# Altium schematic symbol library SG_SCH_Analog.SchLib: 13 symbols
Pins are listed as number, name and electrical type; pins without a type are passive.

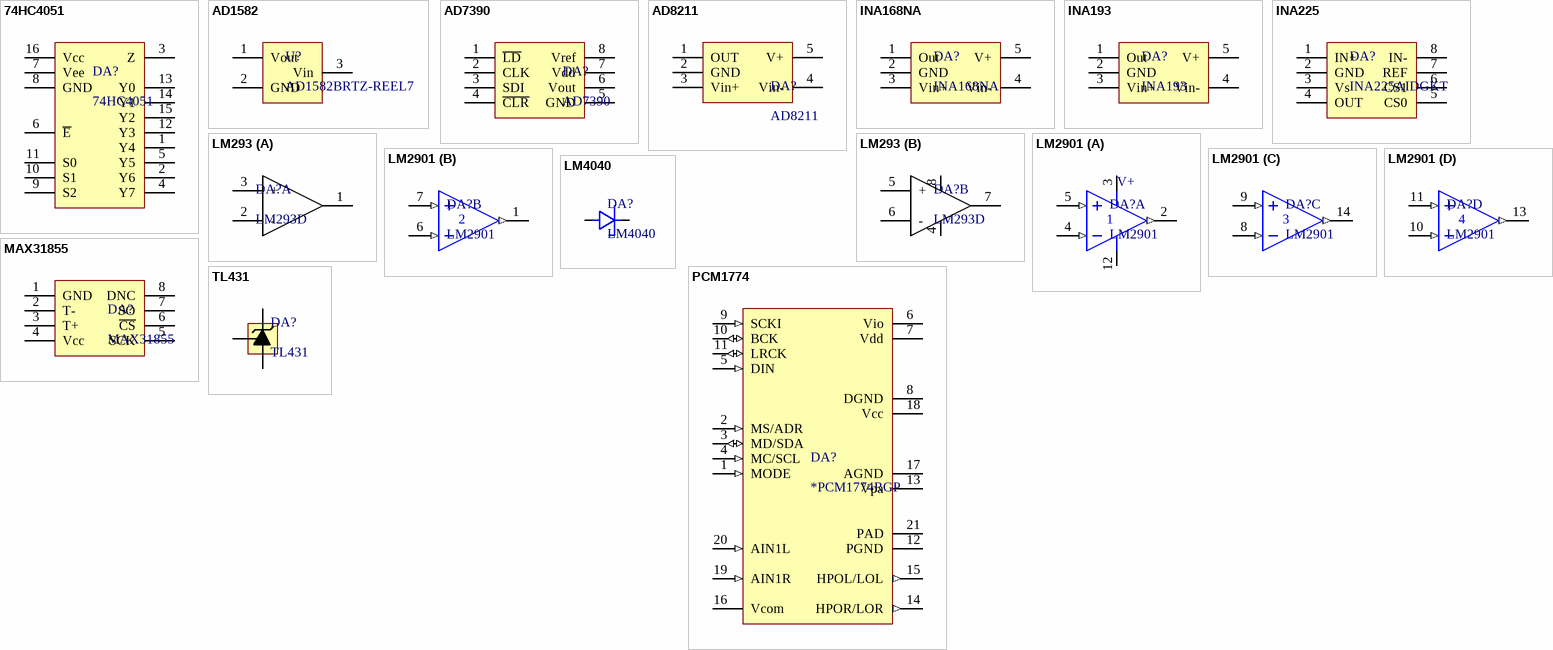
[diagram p0: symbols 74HC4051 to TL431]

## 74HC4051
designator DA?
Analog multiplexer/demultiplexer; Order: *74HC4051PW.118
footprint TSSOP-16
pins: 1 Y4, 2 Y6, 3 Z, 4 Y7, 5 Y5, 6 ~{E}, 7 Vee, 8 GND, 9 S2, 10 S1, 11 S0, 12 Y3, 13 Y0, 14 Y1, 15 Y2, 16 Vcc

## AD1582
designator U?, comment AD1582BRTZ-REEL7
Voltage reference; Order: *AD1582BRTZ-REEL7
footprint SOT23-3
pins: 1 Vout, 2 GND, 3 Vin

## AD7390
designator DA?
12-bit DAC; Order: *
footprint SO-8 (Small Outline; 8 Leads; Body Width 3.9 mm; Pitch 1.27 mm)
pins: 1 ~{LD}, 2 CLK, 3 SDI, 4 ~{CL}~{R}, 5 GND, 6 Vout, 7 Vdd, 8 Vref

## AD8211
designator DA?
Current monitor 20V/V, 500kHz, 5Vss; Order: *
footprint SOT23-5
pins: 1 OUT, 2 GND, 3 Vin+, 4 Vin-, 5 V+

## INA168NA
designator DA?
I2U converter; Order: *
pins: 1 Out, 2 GND, 3 Vin+, 4 Vin-, 5 V+

## INA193
designator DA?
I2U converter; Order: *
footprint SOT23-5
footprint SOT23-5N (SOT23, 5-Leads, Body 2,90x2,80mm, Pitch 0,95mm, IPC Medium Density)
footprint SOT23-5L (SOT23, 5-Leads, Body 2,90x2,80mm, Pitch 0,95mm, IPC High Density)
footprint SOT23-5M (SOT23, 5-Leads, Body 2,90x2,80mm, Pitch 0,95mm, IPC Low Density)
pins: 1 Out, 2 GND, 3 Vin+, 4 Vin-, 5 V+

## INA225
designator DA?, comment INA225AIDGKT
I2U converter; Order: *INA225AIDGKT
footprint MSOP-8 (TSOP, 8-Leads, Body 3,00x3,00mm, Pitch 0,65mm, IPC Medium Density)
pins: 1 IN+, 2 GND, 3 Vs, 4 OUT, 5 CS0, 6 CS1, 7 REF, 8 IN-

## LM293
designator DA?, comment LM293D
Low Power Low Offset Voltage Dual Comparators; Order: *LM293D
footprint SO-8 (Small Outline; 8 Leads; Body Width 3.9 mm; Pitch 1.27 mm)
part A pins: 1, 2 -, 3 +
part B pins: 4, 5 +, 6 -, 7, 8

## LM2901
designator DA?
COMP; Order: *
footprint SO-14
part A pins: 2 OUT (out), 3 VCC, 4 IN- (in), 5 IN+ (in), 12 GND
part B pins: 1 OUT (out), 6 IN+ (in), 7 IN- (in)
part C pins: 8 IN+ (in), 9 IN- (in), 14 OUT (out)
part D pins: 10 IN+ (in), 11 IN- (in), 13 OUT (out)
part A text: V+

## LM4040
designator DA?
Precision Micropower Shunt Voltage Reference; Order: *LM4040BIM3-2.5/NOPB; Voltage: 2.5
footprint SOT23-3
pins: 1, 2

## MAX31855
designator DA?
termocouple amplifier; Order: *
footprint SO-8 (Small Outline; 8 Leads; Body Width 3.9 mm; Pitch 1.27 mm)
pins: 1 GND, 2 T-, 3 T+, 4 Vcc, 5 SCK, 6 ~{CS}, 7 SO, 8 DNC

## PCM1774
designator DA?, comment *PCM1774RGP
16-Bit, Low-Power Stereo Audio DAC With Analog Mixing, Line and Headphone Outputs; Order: *PCM1774RGP
footprint QFN-20 (PCM1774) (Footprint not found)
pins: 1 MODE (in), 2 MS/ADR (in), 3 MD/SDA (io), 4 MC/SCL (in), 5 DIN (in), 6 Vio (power), 7 Vdd (power), 8 DGND (power), 9 SCKI (in), 10 BCK (io), 11 LRCK (io), 12 PGND (power), 13 Vpa (power), 14 HPOR/LOR (out), 15 HPOL/LOL (out), 16 Vcom (power), 17 AGND (power), 18 Vcc (power), 19 AIN1R (in), 20 AIN1L (in), 21 PAD (power)

## TL431
designator DA?
Reference voltage source; Order: *
footprint SO-8 (Small Outline; 8 Leads; Body Width 3.9 mm; Pitch 1.27 mm)
pins: 1 Cathode, 2 Anode, 3 Anode hidden, 6 Anode hidden, 7 Anode hidden, 8 Ref